# EAGLE library part MAX186 (library ic)
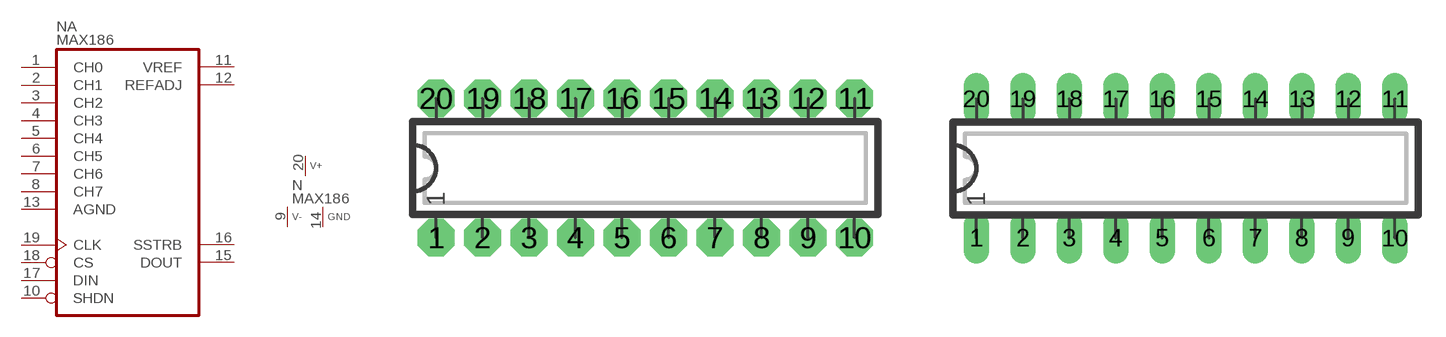
[diagram p30: symbol with the pads of DIP20N; footprints DIP20N, DIP20L]

Designator prefix N; gates A=MAX186 P=V+-GND

## MAX186N  [DIP20N]
1  A:CH0  in
2  A:CH1  in
3  A:CH2  in
4  A:CH3  in
5  A:CH4  in
6  A:CH5  in
7  A:CH6  in
8  A:CH7  in
9  P:V-  pwr
10  A:SHDN  in
11  A:VREF
12  A:REFADJ
13  A:AGND  in
14  P:GND  pwr
15  A:DOUT  out
16  A:SSTRB  out
17  A:DIN  in
18  A:CS  in
19  A:CLK  in
20  P:V+  pwr

## MAX186  [DIP20L]
Pads as for DIP20N

## MAX186L  [DIP20L]
Pads as for DIP20N

## MAX186R  [DIP20R]
Pads as for DIP20N

## Footprint DIP20N (pad centres in mm)
DIP-20 Standard IC package, 20 pins
drill 0.813 pad 2.032 octagon: 1 -11.43,-3.81; 2 -8.89,-3.81; 3 -6.35,-3.81; 4 -3.81,-3.81; 5 -1.27,-3.81; 6 1.27,-3.81; 7 3.81,-3.81; 8 6.35,-3.81; 9 8.89,-3.81; 10 11.43,-3.81; 11 11.43,3.81; 12 8.89,3.81; 13 6.35,3.81; 14 3.81,3.81; 15 1.27,3.81; 16 -1.27,3.81; 17 -3.81,3.81; 18 -6.35,3.81; 19 -8.89,3.81; 20 -11.43,3.81

## Footprint DIP20L (pad centres in mm)
DIP-20, long pads Standard IC package, 20 pins
drill 0.813 pad 1.397 long: 1 -11.43,-3.81; 2 -8.89,-3.81; 3 -6.35,-3.81; 4 -3.81,-3.81; 5 -1.27,-3.81; 6 1.27,-3.81; 7 3.81,-3.81; 8 6.35,-3.81; 9 8.89,-3.81; 10 11.43,-3.81; 11 11.43,3.81; 12 8.89,3.81; 13 6.35,3.81; 14 3.81,3.81; 15 1.27,3.81; 16 -1.27,3.81; 17 -3.81,3.81; 18 -6.35,3.81; 19 -8.89,3.81; 20 -11.43,3.81

## Footprint DIP20R (pad centres in mm)
DIP-20, reduced pads Standard IC package, 20 pins
drill 0.813 pad 1.397 square: 1 -11.43,-3.81; 2 -8.89,-3.81; 3 -6.35,-3.81; 4 -3.81,-3.81; 5 -1.27,-3.81; 6 1.27,-3.81; 7 3.81,-3.81; 8 6.35,-3.81; 9 8.89,-3.81; 10 11.43,-3.81; 11 11.43,3.81; 12 8.89,3.81; 13 6.35,3.81; 14 3.81,3.81; 15 1.27,3.81; 16 -1.27,3.81; 17 -3.81,3.81; 18 -6.35,3.81; 19 -8.89,3.81; 20 -11.43,3.81